# EAGLE library part INA226 (library Custom_old)
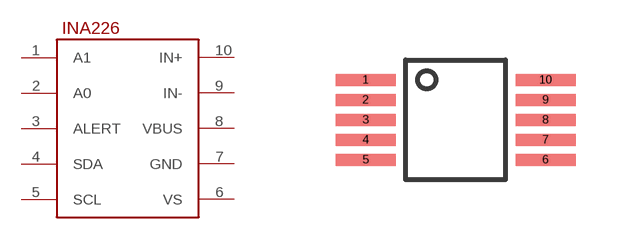
[diagram p23: symbol with the pads of PSOP-10; footprint PSOP-10]

Designator prefix -

## INA226  [PSOP-10]
1  A1
2  A0
3  ALERT
4  SDA
5  SCL
6  VS
7  GND
8  VBUS
9  IN-
10  IN+

## Footprint PSOP-10 (pad centres in mm)
smd 1.5 x 0.3: 1 0,1; 2 0,0.5; 3 0,0; 4 0,-0.5; 5 0,-1; 6 4.5,-1; 7 4.5,-0.5; 8 4.5,0; 9 4.5,0.5; 10 4.5,1